# Altium schematic symbol library LMT88DCKR.SchLib: 1 symbol
Pins are listed as number, name and electrical type; pins without a type are passive.

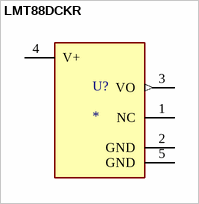
[diagram p0: symbol LMT88DCKR]

## LMT88DCKR
designator U?
&plusmn;4&deg;C analog output temperature sensor, with -11.77mV/&deg;C gain 5-SC70 -55 to 130; MP: LMT88DCKR; Price: None; Package: None; Availability: Unavailable; Value: *
footprint SOT65P210X110-5N
pins: 1 NC, 2 GND (power), 3 VO (out), 4 V+ (power), 5 GND (power)